# Altium footprint library CONN_HDR_2.54MM_ST.PcbLib: 159 footprints (part 4 of 13)
Each footprint in its own frame and in the unit in brackets; x right, y up, seen from the top. Pads: shape width x height; smd on the part's side, far side on the other; paste and mask are expansions set on the pad; w line width, h text height; cw(c..) or ccw(c..) is an arc to the next point about the centre after c.
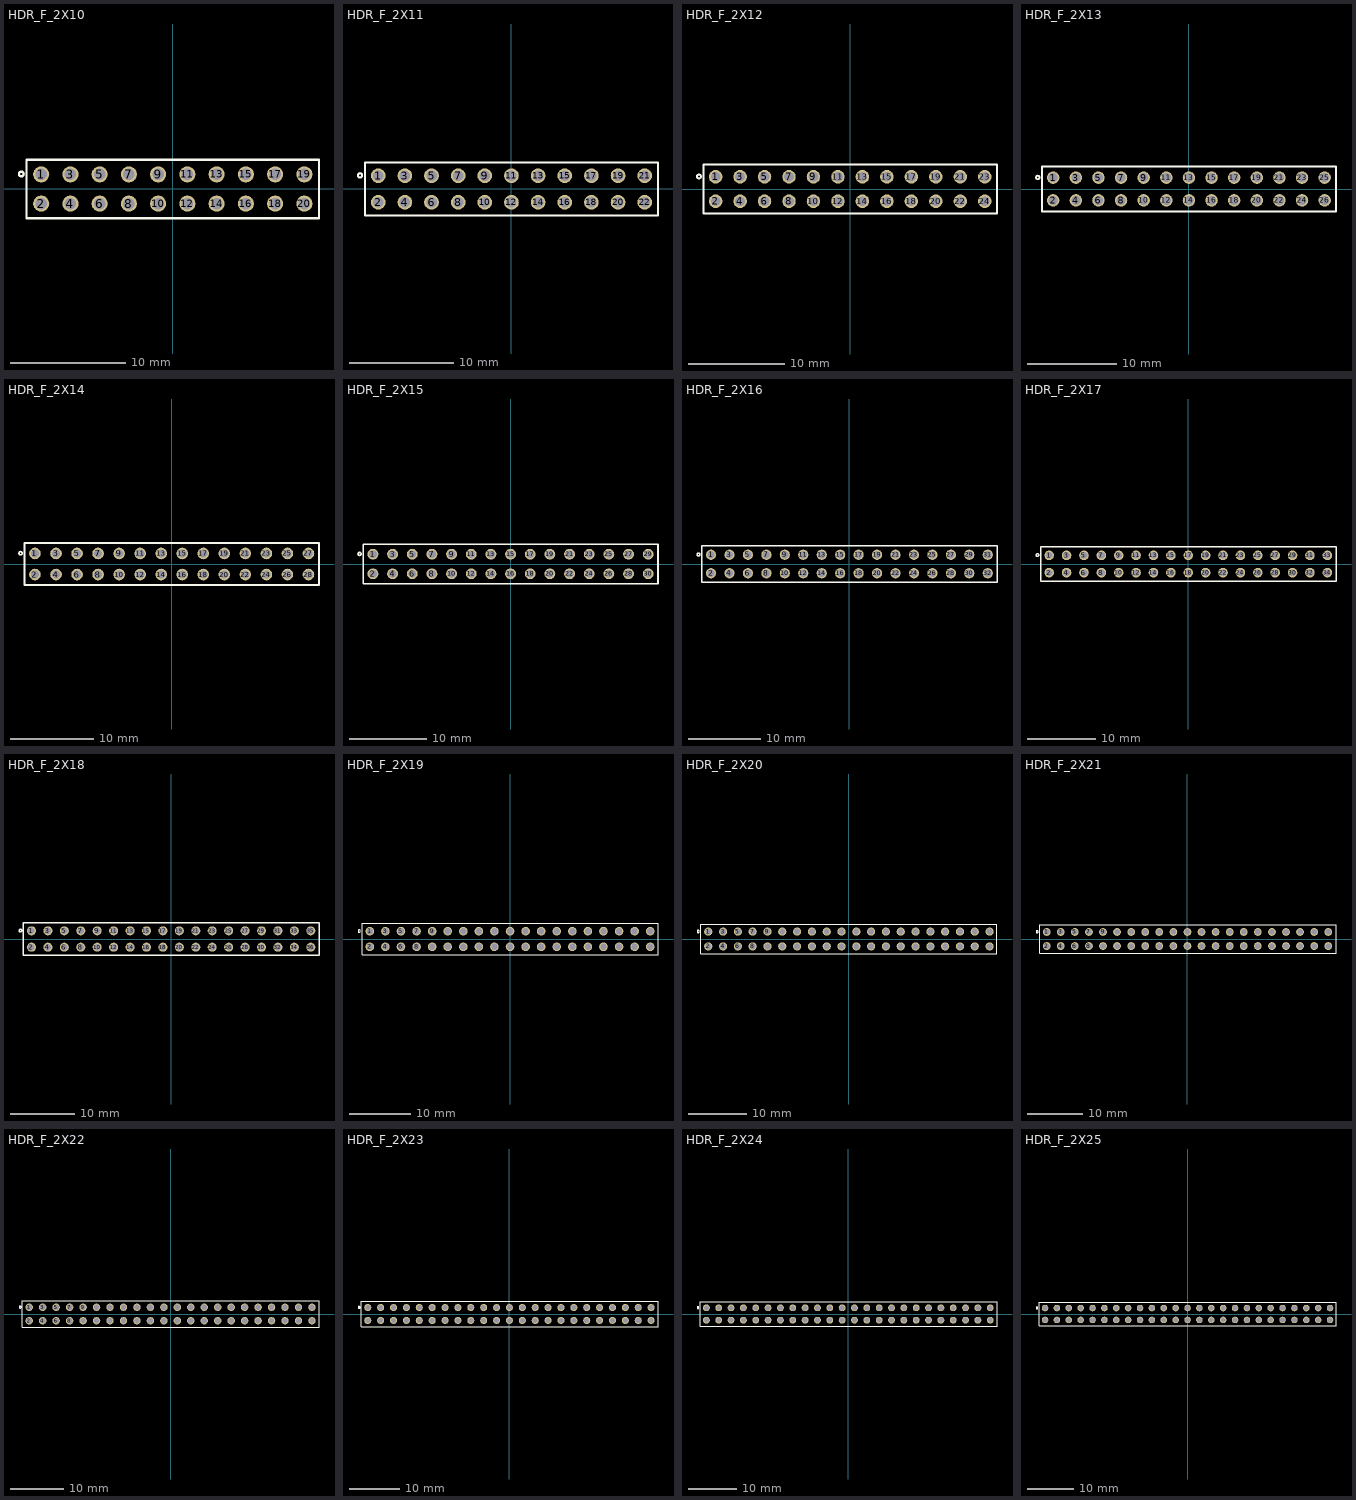
[diagram p3: the footprints below, top view; thin cyan lines are the x and y axes]

## HDR_F_2X10 [mm] "Connector; Header; 10x2 Position"
height 8
pads (20):
  round 1.4 / inner round 1.4 / far side oval 1.4x2.2 hole 1: 1(-11.43,1.27) 2(-11.43,-1.27) 3(-8.89,1.27) 4(-8.89,-1.27) 5(-6.35,1.27) 6(-6.35,-1.27) 7(-3.81,1.27) 8(-3.81,-1.27) 9(-1.27,1.27) 10(-1.27,-1.27) 11(1.27,1.27) 12(1.27,-1.27) 13(3.81,1.27) 14(3.81,-1.27) 15(6.35,1.27) 16(6.35,-1.27) 17(8.89,1.27) 18(8.89,-1.27) 19(11.43,1.27) 20(11.43,-1.27)
TopOverlay:
  circle w0.2: c-13.16,1.3 r0.2
  lines w0.2: -12.7,-2.54 12.7,-2.54 12.7,2.54 -12.7,2.54 -12.7,-2.54
3D body "PBD-2.stp": height 8.5, standoff -3.15, extent -10.16,-2.54 -7.62,2.54
3D body "PBD-2.stp": height 8.5, standoff -3.15, extent -12.7,-2.54 -10.16,2.54
3D body "PBD-2.stp": height 8.5, standoff -3.15, extent -5.08,-2.54 -2.54,2.54
3D body "PBD-2.stp": height 8.5, standoff -3.15, extent -7.62,-2.54 -5.08,2.54
3D body "PBD-2.stp": height 8.5, standoff -3.15, extent 0,-2.54 2.54,2.54
3D body "PBD-2.stp": height 8.5, standoff -3.15, extent -2.54,-2.54 0,2.54
3D body "PBD-2.stp": height 8.5, standoff -3.15, extent 5.08,-2.54 7.62,2.54
3D body "PBD-2.stp": height 8.5, standoff -3.15, extent 2.54,-2.54 5.08,2.54
3D body "PBD-2.stp": height 8.5, standoff -3.15, extent 10.16,-2.54 12.7,2.54
3D body "PBD-2.stp": height 8.5, standoff -3.15, extent 7.62,-2.54 10.16,2.54

## HDR_F_2X11 [mm] "Connector; Header; 11x2 Position"
height 8
pads (22):
  round 1.4 / inner round 1.4 / far side oval 1.4x2.2 hole 1: 1(-12.7,1.27) 2(-12.7,-1.27) 3(-10.16,1.27) 4(-10.16,-1.27) 5(-7.62,1.27) 6(-7.62,-1.27) 7(-5.08,1.27) 8(-5.08,-1.27) 9(-2.54,1.27) 10(-2.54,-1.27) 11(0,1.27) 12(0,-1.27) 13(2.54,1.27) 14(2.54,-1.27) 15(5.08,1.27) 16(5.08,-1.27) 17(7.62,1.27) 18(7.62,-1.27) 19(10.16,1.27) 20(10.16,-1.27) 21(12.7,1.27) 22(12.7,-1.27)
TopOverlay:
  circle w0.2: c-14.43,1.3 r0.2
  lines w0.2: -13.97,-2.54 -13.97,2.54 13.97,2.54 13.97,-2.54 -13.97,-2.54
3D body "PBD-2.stp": height 8.5, standoff -3.15, extent 3.81,-2.54 6.35,2.54
3D body "PBD-2.stp": height 8.5, standoff -3.15, extent 1.27,-2.54 3.81,2.54
3D body "PBD-2.stp": height 8.5, standoff -3.15, extent 6.35,-2.54 8.89,2.54
3D body "PBD-2.stp": height 8.5, standoff -3.15, extent -3.81,-2.54 -1.27,2.54
3D body "PBD-2.stp": height 8.5, standoff -3.15, extent -6.35,-2.54 -3.81,2.54
3D body "PBD-2.stp": height 8.5, standoff -3.15, extent -1.27,-2.54 1.27,2.54
3D body "PBD-2.stp": height 8.5, standoff -3.15, extent -11.43,-2.54 -8.89,2.54
3D body "PBD-2.stp": height 8.5, standoff -3.15, extent -13.97,-2.54 -11.43,2.54
3D body "PBD-2.stp": height 8.5, standoff -3.15, extent -8.89,-2.54 -6.35,2.54
3D body "PBD-2.stp": height 8.5, standoff -3.15, extent 8.89,-2.54 11.43,2.54
3D body "PBD-2.stp": height 8.5, standoff -3.15, extent 11.43,-2.54 13.97,2.54

## HDR_F_2X12 [mm] "Connector; Header; 12x2 Position"
height 8
pads (24):
  round 1.4 / inner round 1.4 / far side oval 1.4x2.2 hole 1: 1(-13.97,1.27) 2(-13.97,-1.27) 3(-11.43,1.27) 4(-11.43,-1.27) 5(-8.89,1.27) 6(-8.89,-1.27) 7(-6.35,1.27) 8(-6.35,-1.27) 9(-3.81,1.27) 10(-3.81,-1.27) 11(-1.27,1.27) 12(-1.27,-1.27) 13(1.27,1.27) 14(1.27,-1.27) 15(3.81,1.27) 16(3.81,-1.27) 17(6.35,1.27) 18(6.35,-1.27) 19(8.89,1.27) 20(8.89,-1.27) 21(11.43,1.27) 22(11.43,-1.27) 23(13.97,1.27) 24(13.97,-1.27)
TopOverlay:
  circle w0.2: c-15.7,1.3 r0.2
  lines w0.2: -15.24,-2.54 -15.24,2.54 15.24,2.54 15.24,-2.54 -15.24,-2.54
3D body "PBD-2.stp": height 8.5, standoff -3.15, extent -10.16,-2.54 -7.62,2.54
3D body "PBD-2.stp": height 8.5, standoff -3.15, extent -15.24,-2.54 -12.7,2.54
3D body "PBD-2.stp": height 8.5, standoff -3.15, extent -12.7,-2.54 -10.16,2.54
3D body "PBD-2.stp": height 8.5, standoff -3.15, extent -2.54,-2.54 0,2.54
3D body "PBD-2.stp": height 8.5, standoff -3.15, extent -7.62,-2.54 -5.08,2.54
3D body "PBD-2.stp": height 8.5, standoff -3.15, extent -5.08,-2.54 -2.54,2.54
3D body "PBD-2.stp": height 8.5, standoff -3.15, extent 5.08,-2.54 7.62,2.54
3D body "PBD-2.stp": height 8.5, standoff -3.15, extent 0,-2.54 2.54,2.54
3D body "PBD-2.stp": height 8.5, standoff -3.15, extent 2.54,-2.54 5.08,2.54
3D body "PBD-2.stp": height 8.5, standoff -3.15, extent 12.7,-2.54 15.24,2.54
3D body "PBD-2.stp": height 8.5, standoff -3.15, extent 7.62,-2.54 10.16,2.54
3D body "PBD-2.stp": height 8.5, standoff -3.15, extent 10.16,-2.54 12.7,2.54

## HDR_F_2X13 [mm] "Connector; Header; 13x2 Position"
height 8
pads (26):
  round 1.4 / inner round 1.4 / far side oval 1.4x2.2 hole 1: 1(-15.24,1.27) 2(-15.24,-1.27) 3(-12.7,1.27) 4(-12.7,-1.27) 5(-10.16,1.27) 6(-10.16,-1.27) 7(-7.62,1.27) 8(-7.62,-1.27) 9(-5.08,1.27) 10(-5.08,-1.27) 11(-2.54,1.27) 12(-2.54,-1.27) 13(0,1.27) 14(0,-1.27) 15(2.54,1.27) 16(2.54,-1.27) 17(5.08,1.27) 18(5.08,-1.27) 19(7.62,1.27) 20(7.62,-1.27) 21(10.16,1.27) 22(10.16,-1.27) 23(12.7,1.27) 24(12.7,-1.27) 25(15.24,1.27) 26(15.24,-1.27)
TopOverlay:
  circle w0.2: c-16.97,1.3 r0.2
  lines w0.2: -16.51,-2.54 16.51,-2.54 16.51,2.54 -16.51,2.54 -16.51,-2.54
3D body "PBD-2.stp": height 8.5, standoff -3.15, extent 13.97,-2.54 16.51,2.54
3D body "PBD-2.stp": height 8.5, standoff -3.15, extent -11.43,-2.54 -8.89,2.54
3D body "PBD-2.stp": height 8.5, standoff -3.15, extent -16.51,-2.54 -13.97,2.54
3D body "PBD-2.stp": height 8.5, standoff -3.15, extent -13.97,-2.54 -11.43,2.54
3D body "PBD-2.stp": height 8.5, standoff -3.15, extent -3.81,-2.54 -1.27,2.54
3D body "PBD-2.stp": height 8.5, standoff -3.15, extent -8.89,-2.54 -6.35,2.54
3D body "PBD-2.stp": height 8.5, standoff -3.15, extent -6.35,-2.54 -3.81,2.54
3D body "PBD-2.stp": height 8.5, standoff -3.15, extent 3.81,-2.54 6.35,2.54
3D body "PBD-2.stp": height 8.5, standoff -3.15, extent -1.27,-2.54 1.27,2.54
3D body "PBD-2.stp": height 8.5, standoff -3.15, extent 1.27,-2.54 3.81,2.54
3D body "PBD-2.stp": height 8.5, standoff -3.15, extent 11.43,-2.54 13.97,2.54
3D body "PBD-2.stp": height 8.5, standoff -3.15, extent 6.35,-2.54 8.89,2.54
3D body "PBD-2.stp": height 8.5, standoff -3.15, extent 8.89,-2.54 11.43,2.54

## HDR_F_2X14 [mm] "Connector; Header; 14x2 Position"
height 8
pads (28):
  round 1.4 / inner round 1.4 / far side oval 1.4x2.2 hole 1: 1(-16.51,1.27) 2(-16.51,-1.27) 3(-13.97,1.27) 4(-13.97,-1.27) 5(-11.43,1.27) 6(-11.43,-1.27) 7(-8.89,1.27) 8(-8.89,-1.27) 9(-6.35,1.27) 10(-6.35,-1.27) 11(-3.81,1.27) 12(-3.81,-1.27) 13(-1.27,1.27) 14(-1.27,-1.27) 15(1.27,1.27) 16(1.27,-1.27) 17(3.81,1.27) 18(3.81,-1.27) 19(6.35,1.27) 20(6.35,-1.27) 21(8.89,1.27) 22(8.89,-1.27) 23(11.43,1.27) 24(11.43,-1.27) 25(13.97,1.27) 26(13.97,-1.27) 27(16.51,1.27) 28(16.51,-1.27)
TopOverlay:
  circle w0.2: c-18.24,1.3 r0.2
  lines w0.2: -17.78,-2.54 -17.78,2.54 17.78,2.54 17.78,-2.54 -17.78,-2.54
3D body "PBD-2.stp": height 8.5, standoff -3.15, extent 7.62,-2.54 10.16,2.54
3D body "PBD-2.stp": height 8.5, standoff -3.15, extent 5.08,-2.54 7.62,2.54
3D body "PBD-2.stp": height 8.5, standoff -3.15, extent 10.16,-2.54 12.7,2.54
3D body "PBD-2.stp": height 8.5, standoff -3.15, extent 0,-2.54 2.54,2.54
3D body "PBD-2.stp": height 8.5, standoff -3.15, extent -2.54,-2.54 0,2.54
3D body "PBD-2.stp": height 8.5, standoff -3.15, extent 2.54,-2.54 5.08,2.54
3D body "PBD-2.stp": height 8.5, standoff -3.15, extent -7.62,-2.54 -5.08,2.54
3D body "PBD-2.stp": height 8.5, standoff -3.15, extent -10.16,-2.54 -7.62,2.54
3D body "PBD-2.stp": height 8.5, standoff -3.15, extent -5.08,-2.54 -2.54,2.54
3D body "PBD-2.stp": height 8.5, standoff -3.15, extent -15.24,-2.54 -12.7,2.54
3D body "PBD-2.stp": height 8.5, standoff -3.15, extent -17.78,-2.54 -15.24,2.54
3D body "PBD-2.stp": height 8.5, standoff -3.15, extent -12.7,-2.54 -10.16,2.54
3D body "PBD-2.stp": height 8.5, standoff -3.15, extent 12.7,-2.54 15.24,2.54
3D body "PBD-2.stp": height 8.5, standoff -3.15, extent 15.24,-2.54 17.78,2.54

## HDR_F_2X15 [mm] "Connector; Header; 15x2 Position"
height 8
pads (30):
  round 1.4 / inner round 1.4 / far side oval 1.4x2.2 hole 1: 1(-17.78,1.27) 2(-17.78,-1.27) 3(-15.24,1.27) 4(-15.24,-1.27) 5(-12.7,1.27) 6(-12.7,-1.27) 7(-10.16,1.27) 8(-10.16,-1.27) 9(-7.62,1.27) 10(-7.62,-1.27) 11(-5.08,1.27) 12(-5.08,-1.27) 13(-2.54,1.27) 14(-2.54,-1.27) 15(0,1.27) 16(0,-1.27) 17(2.54,1.27) 18(2.54,-1.27) 19(5.08,1.27) 20(5.08,-1.27) 21(7.62,1.27) 22(7.62,-1.27) 23(10.16,1.27) 24(10.16,-1.27) 25(12.7,1.27) 26(12.7,-1.27) 27(15.24,1.27) 28(15.24,-1.27) 29(17.78,1.27) 30(17.78,-1.27)
TopOverlay:
  circle w0.2: c-19.51,1.3 r0.2
  lines w0.2: -19.05,-2.54 19.05,-2.54 19.05,2.54 -19.05,2.54 -19.05,-2.54
3D body "PBD-2.stp": height 8.5, standoff -3.15, extent 13.97,-2.54 16.51,2.54
3D body "PBD-2.stp": height 8.5, standoff -3.15, extent 11.43,-2.54 13.97,2.54
3D body "PBD-2.stp": height 8.5, standoff -3.15, extent 16.51,-2.54 19.05,2.54
3D body "PBD-2.stp": height 8.5, standoff -3.15, extent 6.35,-2.54 8.89,2.54
3D body "PBD-2.stp": height 8.5, standoff -3.15, extent 3.81,-2.54 6.35,2.54
3D body "PBD-2.stp": height 8.5, standoff -3.15, extent 8.89,-2.54 11.43,2.54
3D body "PBD-2.stp": height 8.5, standoff -3.15, extent -1.27,-2.54 1.27,2.54
3D body "PBD-2.stp": height 8.5, standoff -3.15, extent -3.81,-2.54 -1.27,2.54
3D body "PBD-2.stp": height 8.5, standoff -3.15, extent 1.27,-2.54 3.81,2.54
3D body "PBD-2.stp": height 8.5, standoff -3.15, extent -8.89,-2.54 -6.35,2.54
3D body "PBD-2.stp": height 8.5, standoff -3.15, extent -11.43,-2.54 -8.89,2.54
3D body "PBD-2.stp": height 8.5, standoff -3.15, extent -6.35,-2.54 -3.81,2.54
3D body "PBD-2.stp": height 8.5, standoff -3.15, extent -16.51,-2.54 -13.97,2.54
3D body "PBD-2.stp": height 8.5, standoff -3.15, extent -19.05,-2.54 -16.51,2.54
3D body "PBD-2.stp": height 8.5, standoff -3.15, extent -13.97,-2.54 -11.43,2.54

## HDR_F_2X16 [mm] "Connector; Header; 16x2 Position"
height 8
pads (32):
  round 1.4 / inner round 1.4 / far side oval 1.4x2.2 hole 1: 1(-19.05,1.27) 2(-19.05,-1.27) 3(-16.51,1.27) 4(-16.51,-1.27) 5(-13.97,1.27) 6(-13.97,-1.27) 7(-11.43,1.27) 8(-11.43,-1.27) 9(-8.89,1.27) 10(-8.89,-1.27) 11(-6.35,1.27) 12(-6.35,-1.27) 13(-3.81,1.27) 14(-3.81,-1.27) 15(-1.27,1.27) 16(-1.27,-1.27) 17(1.27,1.27) 18(1.27,-1.27) 19(3.81,1.27) 20(3.81,-1.27) 21(6.35,1.27) 22(6.35,-1.27) 23(8.89,1.27) 24(8.89,-1.27) 25(11.43,1.27) 26(11.43,-1.27) 27(13.97,1.27) 28(13.97,-1.27) 29(16.51,1.27) 30(16.51,-1.27) 31(19.05,1.27) 32(19.05,-1.27)
TopOverlay:
  circle w0.2: c-20.78,1.3 r0.2
  lines w0.2: -20.32,-2.54 20.32,-2.54 20.32,2.54 -20.32,2.54 -20.32,-2.54
3D body "PBD-2.stp": height 8.5, standoff -3.15, extent 12.7,-2.54 15.24,2.54
3D body "PBD-2.stp": height 8.5, standoff -3.15, extent 10.16,-2.54 12.7,2.54
3D body "PBD-2.stp": height 8.5, standoff -3.15, extent 15.24,-2.54 17.78,2.54
3D body "PBD-2.stp": height 8.5, standoff -3.15, extent 5.08,-2.54 7.62,2.54
3D body "PBD-2.stp": height 8.5, standoff -3.15, extent 2.54,-2.54 5.08,2.54
3D body "PBD-2.stp": height 8.5, standoff -3.15, extent 7.62,-2.54 10.16,2.54
3D body "PBD-2.stp": height 8.5, standoff -3.15, extent -2.54,-2.54 0,2.54
3D body "PBD-2.stp": height 8.5, standoff -3.15, extent -5.08,-2.54 -2.54,2.54
3D body "PBD-2.stp": height 8.5, standoff -3.15, extent 0,-2.54 2.54,2.54
3D body "PBD-2.stp": height 8.5, standoff -3.15, extent -10.16,-2.54 -7.62,2.54
3D body "PBD-2.stp": height 8.5, standoff -3.15, extent -12.7,-2.54 -10.16,2.54
3D body "PBD-2.stp": height 8.5, standoff -3.15, extent -7.62,-2.54 -5.08,2.54
3D body "PBD-2.stp": height 8.5, standoff -3.15, extent -17.78,-2.54 -15.24,2.54
3D body "PBD-2.stp": height 8.5, standoff -3.15, extent -20.32,-2.54 -17.78,2.54
3D body "PBD-2.stp": height 8.5, standoff -3.15, extent -15.24,-2.54 -12.7,2.54
3D body "PBD-2.stp": height 8.5, standoff -3.15, extent 17.78,-2.54 20.32,2.54

## HDR_F_2X17 [mm] "Connector; Header; 17x2 Position"
height 8
pads (34):
  round 1.4 / inner round 1.4 / far side oval 1.4x2.2 hole 1: 1(-20.32,1.27) 2(-20.32,-1.27) 3(-17.78,1.27) 4(-17.78,-1.27) 5(-15.24,1.27) 6(-15.24,-1.27) 7(-12.7,1.27) 8(-12.7,-1.27) 9(-10.16,1.27) 10(-10.16,-1.27) 11(-7.62,1.27) 12(-7.62,-1.27) 13(-5.08,1.27) 14(-5.08,-1.27) 15(-2.54,1.27) 16(-2.54,-1.27) 17(0,1.27) 18(0,-1.27) 19(2.54,1.27) 20(2.54,-1.27) 21(5.08,1.27) 22(5.08,-1.27) 23(7.62,1.27) 24(7.62,-1.27) 25(10.16,1.27) 26(10.16,-1.27) 27(12.7,1.27) 28(12.7,-1.27) 29(15.24,1.27) 30(15.24,-1.27) 31(17.78,1.27) 32(17.78,-1.27) 33(20.32,1.27) 34(20.32,-1.27)
TopOverlay:
  circle w0.2: c-22.05,1.3 r0.2
  lines w0.2: -21.59,-2.54 -21.59,2.54 21.59,2.54 21.59,-2.54 -21.59,-2.54
3D body "PBD-2.stp": height 8.5, standoff -3.15, extent 11.43,-2.54 13.97,2.54
3D body "PBD-2.stp": height 8.5, standoff -3.15, extent 8.89,-2.54 11.43,2.54
3D body "PBD-2.stp": height 8.5, standoff -3.15, extent 13.97,-2.54 16.51,2.54
3D body "PBD-2.stp": height 8.5, standoff -3.15, extent 3.81,-2.54 6.35,2.54
3D body "PBD-2.stp": height 8.5, standoff -3.15, extent 1.27,-2.54 3.81,2.54
3D body "PBD-2.stp": height 8.5, standoff -3.15, extent 6.35,-2.54 8.89,2.54
3D body "PBD-2.stp": height 8.5, standoff -3.15, extent -3.81,-2.54 -1.27,2.54
3D body "PBD-2.stp": height 8.5, standoff -3.15, extent -6.35,-2.54 -3.81,2.54
3D body "PBD-2.stp": height 8.5, standoff -3.15, extent -1.27,-2.54 1.27,2.54
3D body "PBD-2.stp": height 8.5, standoff -3.15, extent -11.43,-2.54 -8.89,2.54
3D body "PBD-2.stp": height 8.5, standoff -3.15, extent -13.97,-2.54 -11.43,2.54
3D body "PBD-2.stp": height 8.5, standoff -3.15, extent -8.89,-2.54 -6.35,2.54
3D body "PBD-2.stp": height 8.5, standoff -3.15, extent -19.05,-2.54 -16.51,2.54
3D body "PBD-2.stp": height 8.5, standoff -3.15, extent -21.59,-2.54 -19.05,2.54
3D body "PBD-2.stp": height 8.5, standoff -3.15, extent -16.51,-2.54 -13.97,2.54
3D body "PBD-2.stp": height 8.5, standoff -3.15, extent 16.51,-2.54 19.05,2.54
3D body "PBD-2.stp": height 8.5, standoff -3.15, extent 19.05,-2.54 21.59,2.54

## HDR_F_2X18 [mm] "Connector; Header; 18x2 Position"
height 8
pads (36):
  round 1.4 / inner round 1.4 / far side oval 1.4x2.2 hole 1: 1(-21.59,1.27) 2(-21.59,-1.27) 3(-19.05,1.27) 4(-19.05,-1.27) 5(-16.51,1.27) 6(-16.51,-1.27) 7(-13.97,1.27) 8(-13.97,-1.27) 9(-11.43,1.27) 10(-11.43,-1.27) 11(-8.89,1.27) 12(-8.89,-1.27) 13(-6.35,1.27) 14(-6.35,-1.27) 15(-3.81,1.27) 16(-3.81,-1.27) 17(-1.27,1.27) 18(-1.27,-1.27) 19(1.27,1.27) 20(1.27,-1.27) 21(3.81,1.27) 22(3.81,-1.27) 23(6.35,1.27) 24(6.35,-1.27) 25(8.89,1.27) 26(8.89,-1.27) 27(11.43,1.27) 28(11.43,-1.27) 29(13.97,1.27) 30(13.97,-1.27) 31(16.51,1.27) 32(16.51,-1.27) 33(19.05,1.27) 34(19.05,-1.27) 35(21.59,1.27) 36(21.59,-1.27)
TopOverlay:
  circle w0.2: c-23.32,1.3 r0.2
  lines w0.2: -22.86,-2.54 22.86,-2.54 22.86,2.54 -22.86,2.54 -22.86,-2.54
3D body "PBD-2.stp": height 8.5, standoff -3.15, extent -17.78,-2.54 -15.24,2.54
3D body "PBD-2.stp": height 8.5, standoff -3.15, extent -22.86,-2.54 -20.32,2.54
3D body "PBD-2.stp": height 8.5, standoff -3.15, extent -20.32,-2.54 -17.78,2.54
3D body "PBD-2.stp": height 8.5, standoff -3.15, extent -10.16,-2.54 -7.62,2.54
3D body "PBD-2.stp": height 8.5, standoff -3.15, extent -15.24,-2.54 -12.7,2.54
3D body "PBD-2.stp": height 8.5, standoff -3.15, extent -12.7,-2.54 -10.16,2.54
3D body "PBD-2.stp": height 8.5, standoff -3.15, extent -2.54,-2.54 0,2.54
3D body "PBD-2.stp": height 8.5, standoff -3.15, extent -7.62,-2.54 -5.08,2.54
3D body "PBD-2.stp": height 8.5, standoff -3.15, extent -5.08,-2.54 -2.54,2.54
3D body "PBD-2.stp": height 8.5, standoff -3.15, extent 5.08,-2.54 7.62,2.54
3D body "PBD-2.stp": height 8.5, standoff -3.15, extent 0,-2.54 2.54,2.54
3D body "PBD-2.stp": height 8.5, standoff -3.15, extent 2.54,-2.54 5.08,2.54
3D body "PBD-2.stp": height 8.5, standoff -3.15, extent 12.7,-2.54 15.24,2.54
3D body "PBD-2.stp": height 8.5, standoff -3.15, extent 7.62,-2.54 10.16,2.54
3D body "PBD-2.stp": height 8.5, standoff -3.15, extent 10.16,-2.54 12.7,2.54
3D body "PBD-2.stp": height 8.5, standoff -3.15, extent 20.32,-2.54 22.86,2.54
3D body "PBD-2.stp": height 8.5, standoff -3.15, extent 15.24,-2.54 17.78,2.54
3D body "PBD-2.stp": height 8.5, standoff -3.15, extent 17.78,-2.54 20.32,2.54

## HDR_F_2X19 [mm] "Connector; Header; 19x2 Position"
height 8
pads (38):
  round 1.4 / inner round 1.4 / far side oval 1.4x2.2 hole 1: 1(-22.86,1.27) 2(-22.86,-1.27) 3(-20.32,1.27) 4(-20.32,-1.27) 5(-17.78,1.27) 6(-17.78,-1.27) 7(-15.24,1.27) 8(-15.24,-1.27) 9(-12.7,1.27) 10(-12.7,-1.27) 11(-10.16,1.27) 12(-10.16,-1.27) 13(-7.62,1.27) 14(-7.62,-1.27) 15(-5.08,1.27) 16(-5.08,-1.27) 17(-2.54,1.27) 18(-2.54,-1.27) 19(0,1.27) 20(0,-1.27) 21(2.54,1.27) 22(2.54,-1.27) 23(5.08,1.27) 24(5.08,-1.27) 25(7.62,1.27) 26(7.62,-1.27) 27(10.16,1.27) 28(10.16,-1.27) 29(12.7,1.27) 30(12.7,-1.27) 31(15.24,1.27) 32(15.24,-1.27) 33(17.78,1.27) 34(17.78,-1.27) 35(20.32,1.27) 36(20.32,-1.27) 37(22.86,1.27) 38(22.86,-1.27)
TopOverlay:
  circle w0.2: c-24.59,1.3 r0.2
  lines w0.2: -24.13,-2.54 -24.13,2.54 24.13,2.54 24.13,-2.54 -24.13,-2.54
3D body "PBD-2.stp": height 8.5, standoff -3.15, extent 21.59,-2.54 24.13,2.54
3D body "PBD-2.stp": height 8.5, standoff -3.15, extent -19.05,-2.54 -16.51,2.54
3D body "PBD-2.stp": height 8.5, standoff -3.15, extent -24.13,-2.54 -21.59,2.54
3D body "PBD-2.stp": height 8.5, standoff -3.15, extent -21.59,-2.54 -19.05,2.54
3D body "PBD-2.stp": height 8.5, standoff -3.15, extent -11.43,-2.54 -8.89,2.54
3D body "PBD-2.stp": height 8.5, standoff -3.15, extent -16.51,-2.54 -13.97,2.54
3D body "PBD-2.stp": height 8.5, standoff -3.15, extent -13.97,-2.54 -11.43,2.54
3D body "PBD-2.stp": height 8.5, standoff -3.15, extent -3.81,-2.54 -1.27,2.54
3D body "PBD-2.stp": height 8.5, standoff -3.15, extent -8.89,-2.54 -6.35,2.54
3D body "PBD-2.stp": height 8.5, standoff -3.15, extent -6.35,-2.54 -3.81,2.54
3D body "PBD-2.stp": height 8.5, standoff -3.15, extent 3.81,-2.54 6.35,2.54
3D body "PBD-2.stp": height 8.5, standoff -3.15, extent -1.27,-2.54 1.27,2.54
3D body "PBD-2.stp": height 8.5, standoff -3.15, extent 1.27,-2.54 3.81,2.54
3D body "PBD-2.stp": height 8.5, standoff -3.15, extent 11.43,-2.54 13.97,2.54
3D body "PBD-2.stp": height 8.5, standoff -3.15, extent 6.35,-2.54 8.89,2.54
3D body "PBD-2.stp": height 8.5, standoff -3.15, extent 8.89,-2.54 11.43,2.54
3D body "PBD-2.stp": height 8.5, standoff -3.15, extent 19.05,-2.54 21.59,2.54
3D body "PBD-2.stp": height 8.5, standoff -3.15, extent 13.97,-2.54 16.51,2.54
3D body "PBD-2.stp": height 8.5, standoff -3.15, extent 16.51,-2.54 19.05,2.54

## HDR_F_2X20 [mm] "Connector; Header; 20x2 Position"
height 8
pads (40):
  round 1.4 / inner round 1.4 / far side oval 1.4x2.2 hole 1: 1(-24.13,1.27) 2(-24.13,-1.27) 3(-21.59,1.27) 4(-21.59,-1.27) 5(-19.05,1.27) 6(-19.05,-1.27) 7(-16.51,1.27) 8(-16.51,-1.27) 9(-13.97,1.27) 10(-13.97,-1.27) 11(-11.43,1.27) 12(-11.43,-1.27) 13(-8.89,1.27) 14(-8.89,-1.27) 15(-6.35,1.27) 16(-6.35,-1.27) 17(-3.81,1.27) 18(-3.81,-1.27) 19(-1.27,1.27) 20(-1.27,-1.27) 21(1.27,1.27) 22(1.27,-1.27) 23(3.81,1.27) 24(3.81,-1.27) 25(6.35,1.27) 26(6.35,-1.27) 27(8.89,1.27) 28(8.89,-1.27) 29(11.43,1.27) 30(11.43,-1.27) 31(13.97,1.27) 32(13.97,-1.27) 33(16.51,1.27) 34(16.51,-1.27) 35(19.05,1.27) 36(19.05,-1.27) 37(21.59,1.27) 38(21.59,-1.27) 39(24.13,1.27) 40(24.13,-1.27)
TopOverlay:
  circle w0.2: c-25.86,1.3 r0.2
  lines w0.2: -25.4,-2.54 25.4,-2.54 25.4,2.54 -25.4,2.54 -25.4,-2.54
3D body "PBD-2.stp": height 8.5, standoff -3.15, extent -20.32,-2.54 -17.78,2.54
3D body "PBD-2.stp": height 8.5, standoff -3.15, extent -25.4,-2.54 -22.86,2.54
3D body "PBD-2.stp": height 8.5, standoff -3.15, extent -22.86,-2.54 -20.32,2.54
3D body "PBD-2.stp": height 8.5, standoff -3.15, extent -12.7,-2.54 -10.16,2.54
3D body "PBD-2.stp": height 8.5, standoff -3.15, extent -17.78,-2.54 -15.24,2.54
3D body "PBD-2.stp": height 8.5, standoff -3.15, extent -15.24,-2.54 -12.7,2.54
3D body "PBD-2.stp": height 8.5, standoff -3.15, extent -5.08,-2.54 -2.54,2.54
3D body "PBD-2.stp": height 8.5, standoff -3.15, extent -10.16,-2.54 -7.62,2.54
3D body "PBD-2.stp": height 8.5, standoff -3.15, extent -7.62,-2.54 -5.08,2.54
3D body "PBD-2.stp": height 8.5, standoff -3.15, extent 2.54,-2.54 5.08,2.54
3D body "PBD-2.stp": height 8.5, standoff -3.15, extent -2.54,-2.54 0,2.54
3D body "PBD-2.stp": height 8.5, standoff -3.15, extent 0,-2.54 2.54,2.54
3D body "PBD-2.stp": height 8.5, standoff -3.15, extent 10.16,-2.54 12.7,2.54
3D body "PBD-2.stp": height 8.5, standoff -3.15, extent 5.08,-2.54 7.62,2.54
3D body "PBD-2.stp": height 8.5, standoff -3.15, extent 7.62,-2.54 10.16,2.54
3D body "PBD-2.stp": height 8.5, standoff -3.15, extent 17.78,-2.54 20.32,2.54
3D body "PBD-2.stp": height 8.5, standoff -3.15, extent 12.7,-2.54 15.24,2.54
3D body "PBD-2.stp": height 8.5, standoff -3.15, extent 15.24,-2.54 17.78,2.54
3D body "PBD-2.stp": height 8.5, standoff -3.15, extent 20.32,-2.54 22.86,2.54
3D body "PBD-2.stp": height 8.5, standoff -3.15, extent 22.86,-2.54 25.4,2.54

## HDR_F_2X21 [mm] "Connector; Header;"
height 8
pads (42):
  round 1.4 / inner round 1.4 / far side oval 1.4x2.2 hole 1: 1(-25.4,1.27) 2(-25.4,-1.27) 3(-22.86,1.27) 4(-22.86,-1.27) 5(-20.32,1.27) 6(-20.32,-1.27) 7(-17.78,1.27) 8(-17.78,-1.27) 9(-15.24,1.27) 10(-15.24,-1.27) 11(-12.7,1.27) 12(-12.7,-1.27) 13(-10.16,1.27) 14(-10.16,-1.27) 15(-7.62,1.27) 16(-7.62,-1.27) 17(-5.08,1.27) 18(-5.08,-1.27) 19(-2.54,1.27) 20(-2.54,-1.27) 21(0,1.27) 22(0,-1.27) 23(2.54,1.27) 24(2.54,-1.27) 25(5.08,1.27) 26(5.08,-1.27) 27(7.62,1.27) 28(7.62,-1.27) 29(10.16,1.27) 30(10.16,-1.27) 31(12.7,1.27) 32(12.7,-1.27) 33(15.24,1.27) 34(15.24,-1.27) 35(17.78,1.27) 36(17.78,-1.27) 37(20.32,1.27) 38(20.32,-1.27) 39(22.86,1.27) 40(22.86,-1.27) 41(25.4,1.27) 42(25.4,-1.27)
TopOverlay:
  circle w0.2: c-27.13,1.3 r0.2
  lines w0.2: -26.67,-2.54 26.8,-2.54 26.8,2.54 -26.67,2.54 -26.67,-2.54
3D body "PBD-2.stp": height 8.5, standoff -3.15, extent -21.59,-2.54 -19.05,2.54
3D body "PBD-2.stp": height 8.5, standoff -3.15, extent -26.67,-2.54 -24.13,2.54
3D body "PBD-2.stp": height 8.5, standoff -3.15, extent -24.13,-2.54 -21.59,2.54
3D body "PBD-2.stp": height 8.5, standoff -3.15, extent -13.97,-2.54 -11.43,2.54
3D body "PBD-2.stp": height 8.5, standoff -3.15, extent -19.05,-2.54 -16.51,2.54
3D body "PBD-2.stp": height 8.5, standoff -3.15, extent -16.51,-2.54 -13.97,2.54
3D body "PBD-2.stp": height 8.5, standoff -3.15, extent -6.35,-2.54 -3.81,2.54
3D body "PBD-2.stp": height 8.5, standoff -3.15, extent -11.43,-2.54 -8.89,2.54
3D body "PBD-2.stp": height 8.5, standoff -3.15, extent -8.89,-2.54 -6.35,2.54
3D body "PBD-2.stp": height 8.5, standoff -3.15, extent 1.27,-2.54 3.81,2.54
3D body "PBD-2.stp": height 8.5, standoff -3.15, extent -3.81,-2.54 -1.27,2.54
3D body "PBD-2.stp": height 8.5, standoff -3.15, extent -1.27,-2.54 1.27,2.54
3D body "PBD-2.stp": height 8.5, standoff -3.15, extent 8.89,-2.54 11.43,2.54
3D body "PBD-2.stp": height 8.5, standoff -3.15, extent 3.81,-2.54 6.35,2.54
3D body "PBD-2.stp": height 8.5, standoff -3.15, extent 6.35,-2.54 8.89,2.54
3D body "PBD-2.stp": height 8.5, standoff -3.15, extent 16.51,-2.54 19.05,2.54
3D body "PBD-2.stp": height 8.5, standoff -3.15, extent 11.43,-2.54 13.97,2.54
3D body "PBD-2.stp": height 8.5, standoff -3.15, extent 13.97,-2.54 16.51,2.54
3D body "PBD-2.stp": height 8.5, standoff -3.15, extent 19.05,-2.54 21.59,2.54
3D body "PBD-2.stp": height 8.5, standoff -3.15, extent 21.59,-2.54 24.13,2.54
3D body "PBD-2.stp": height 8.5, standoff -3.15, extent 24.13,-2.54 26.67,2.54

## HDR_F_2X22 [mm] "Connector; Header;"
height 8
pads (44):
  round 1.4 / inner round 1.4 / far side oval 1.4x2.2 hole 1: 1(-26.67,1.27) 2(-26.67,-1.27) 3(-24.13,1.27) 4(-24.13,-1.27) 5(-21.59,1.27) 6(-21.59,-1.27) 7(-19.05,1.27) 8(-19.05,-1.27) 9(-16.51,1.27) 10(-16.51,-1.27) 11(-13.97,1.27) 12(-13.97,-1.27) 13(-11.43,1.27) 14(-11.43,-1.27) 15(-8.89,1.27) 16(-8.89,-1.27) 17(-6.35,1.27) 18(-6.35,-1.27) 19(-3.81,1.27) 20(-3.81,-1.27) 21(-1.27,1.27) 22(-1.27,-1.27) 23(1.27,1.27) 24(1.27,-1.27) 25(3.81,1.27) 26(3.81,-1.27) 27(6.35,1.27) 28(6.35,-1.27) 29(8.89,1.27) 30(8.89,-1.27) 31(11.43,1.27) 32(11.43,-1.27) 33(13.97,1.27) 34(13.97,-1.27) 35(16.51,1.27) 36(16.51,-1.27) 37(19.05,1.27) 38(19.05,-1.27) 39(21.59,1.27) 40(21.59,-1.27) 41(24.13,1.27) 42(24.13,-1.27) 43(26.67,1.27) 44(26.67,-1.27)
TopOverlay:
  circle w0.2: c-28.4,1.3 r0.2
  lines w0.2: -27.94,-2.54 28,-2.54 28,2.54 -27.94,2.54 -27.94,-2.54
3D body "PBD-2.stp": height 8.5, standoff -3.15, extent -22.86,-2.54 -20.32,2.54
3D body "PBD-2.stp": height 8.5, standoff -3.15, extent -27.94,-2.54 -25.4,2.54
3D body "PBD-2.stp": height 8.5, standoff -3.15, extent -25.4,-2.54 -22.86,2.54
3D body "PBD-2.stp": height 8.5, standoff -3.15, extent -15.24,-2.54 -12.7,2.54
3D body "PBD-2.stp": height 8.5, standoff -3.15, extent -20.32,-2.54 -17.78,2.54
3D body "PBD-2.stp": height 8.5, standoff -3.15, extent -17.78,-2.54 -15.24,2.54
3D body "PBD-2.stp": height 8.5, standoff -3.15, extent -7.62,-2.54 -5.08,2.54
3D body "PBD-2.stp": height 8.5, standoff -3.15, extent -12.7,-2.54 -10.16,2.54
3D body "PBD-2.stp": height 8.5, standoff -3.15, extent -10.16,-2.54 -7.62,2.54
3D body "PBD-2.stp": height 8.5, standoff -3.15, extent 0,-2.54 2.54,2.54
3D body "PBD-2.stp": height 8.5, standoff -3.15, extent -5.08,-2.54 -2.54,2.54
3D body "PBD-2.stp": height 8.5, standoff -3.15, extent -2.54,-2.54 0,2.54
3D body "PBD-2.stp": height 8.5, standoff -3.15, extent 7.62,-2.54 10.16,2.54
3D body "PBD-2.stp": height 8.5, standoff -3.15, extent 2.54,-2.54 5.08,2.54
3D body "PBD-2.stp": height 8.5, standoff -3.15, extent 5.08,-2.54 7.62,2.54
3D body "PBD-2.stp": height 8.5, standoff -3.15, extent 15.24,-2.54 17.78,2.54
3D body "PBD-2.stp": height 8.5, standoff -3.15, extent 10.16,-2.54 12.7,2.54
3D body "PBD-2.stp": height 8.5, standoff -3.15, extent 12.7,-2.54 15.24,2.54
3D body "PBD-2.stp": height 8.5, standoff -3.15, extent 17.78,-2.54 20.32,2.54
3D body "PBD-2.stp": height 8.5, standoff -3.15, extent 20.32,-2.54 22.86,2.54
3D body "PBD-2.stp": height 8.5, standoff -3.15, extent 22.86,-2.54 25.4,2.54
3D body "PBD-2.stp": height 8.5, standoff -3.15, extent 25.4,-2.54 27.94,2.54

## HDR_F_2X23 [mm] "Connector; Header;"
height 8
pads (46):
  round 1.4 / inner round 1.4 / far side oval 1.4x2.2 hole 1: 1(-27.94,1.27) 2(-27.94,-1.27) 3(-25.4,1.27) 4(-25.4,-1.27) 5(-22.86,1.27) 6(-22.86,-1.27) 7(-20.32,1.27) 8(-20.32,-1.27) 9(-17.78,1.27) 10(-17.78,-1.27) 11(-15.24,1.27) 12(-15.24,-1.27) 13(-12.7,1.27) 14(-12.7,-1.27) 15(-10.16,1.27) 16(-10.16,-1.27) 17(-7.62,1.27) 18(-7.62,-1.27) 19(-5.08,1.27) 20(-5.08,-1.27) 21(-2.54,1.27) 22(-2.54,-1.27) 23(0,1.27) 24(0,-1.27) 25(2.54,1.27) 26(2.54,-1.27) 27(5.08,1.27) 28(5.08,-1.27) 29(7.62,1.27) 30(7.62,-1.27) 31(10.16,1.27) 32(10.16,-1.27) 33(12.7,1.27) 34(12.7,-1.27) 35(15.24,1.27) 36(15.24,-1.27) 37(17.78,1.27) 38(17.78,-1.27) 39(20.32,1.27) 40(20.32,-1.27) 41(22.86,1.27) 42(22.86,-1.27) 43(25.4,1.27) 44(25.4,-1.27) 45(27.94,1.27) 46(27.94,-1.27)
TopOverlay:
  circle w0.2: c-29.67,1.3 r0.2
  lines w0.2: -29.21,-2.54 29.3,-2.54 29.3,2.54 -29.21,2.54 -29.21,-2.54
3D body "PBD-2.stp": height 8.5, standoff -3.15, extent -24.13,-2.54 -21.59,2.54
3D body "PBD-2.stp": height 8.5, standoff -3.15, extent -29.21,-2.54 -26.67,2.54
3D body "PBD-2.stp": height 8.5, standoff -3.15, extent -26.67,-2.54 -24.13,2.54
3D body "PBD-2.stp": height 8.5, standoff -3.15, extent -16.51,-2.54 -13.97,2.54
3D body "PBD-2.stp": height 8.5, standoff -3.15, extent -21.59,-2.54 -19.05,2.54
3D body "PBD-2.stp": height 8.5, standoff -3.15, extent -19.05,-2.54 -16.51,2.54
3D body "PBD-2.stp": height 8.5, standoff -3.15, extent -8.89,-2.54 -6.35,2.54
3D body "PBD-2.stp": height 8.5, standoff -3.15, extent -13.97,-2.54 -11.43,2.54
3D body "PBD-2.stp": height 8.5, standoff -3.15, extent -11.43,-2.54 -8.89,2.54
3D body "PBD-2.stp": height 8.5, standoff -3.15, extent -1.27,-2.54 1.27,2.54
3D body "PBD-2.stp": height 8.5, standoff -3.15, extent -6.35,-2.54 -3.81,2.54
3D body "PBD-2.stp": height 8.5, standoff -3.15, extent -3.81,-2.54 -1.27,2.54
3D body "PBD-2.stp": height 8.5, standoff -3.15, extent 6.35,-2.54 8.89,2.54
3D body "PBD-2.stp": height 8.5, standoff -3.15, extent 1.27,-2.54 3.81,2.54
3D body "PBD-2.stp": height 8.5, standoff -3.15, extent 3.81,-2.54 6.35,2.54
3D body "PBD-2.stp": height 8.5, standoff -3.15, extent 13.97,-2.54 16.51,2.54
3D body "PBD-2.stp": height 8.5, standoff -3.15, extent 8.89,-2.54 11.43,2.54
3D body "PBD-2.stp": height 8.5, standoff -3.15, extent 11.43,-2.54 13.97,2.54
3D body "PBD-2.stp": height 8.5, standoff -3.15, extent 16.51,-2.54 19.05,2.54
3D body "PBD-2.stp": height 8.5, standoff -3.15, extent 19.05,-2.54 21.59,2.54
3D body "PBD-2.stp": height 8.5, standoff -3.15, extent 21.59,-2.54 24.13,2.54
3D body "PBD-2.stp": height 8.5, standoff -3.15, extent 24.13,-2.54 26.67,2.54
3D body "PBD-2.stp": height 8.5, standoff -3.15, extent 26.67,-2.54 29.21,2.54

## HDR_F_2X24 [mm] "Connector; Header;"
height 8
pads (48):
  round 1.4 / inner round 1.4 / far side oval 1.4x2.2 hole 1: 1(-29.21,1.27) 2(-29.21,-1.27) 3(-26.67,1.27) 4(-26.67,-1.27) 5(-24.13,1.27) 6(-24.13,-1.27) 7(-21.59,1.27) 8(-21.59,-1.27) 9(-19.05,1.27) 10(-19.05,-1.27) 11(-16.51,1.27) 12(-16.51,-1.27) 13(-13.97,1.27) 14(-13.97,-1.27) 15(-11.43,1.27) 16(-11.43,-1.27) 17(-8.89,1.27) 18(-8.89,-1.27) 19(-6.35,1.27) 20(-6.35,-1.27) 21(-3.81,1.27) 22(-3.81,-1.27) 23(-1.27,1.27) 24(-1.27,-1.27) 25(1.27,1.27) 26(1.27,-1.27) 27(3.81,1.27) 28(3.81,-1.27) 29(6.35,1.27) 30(6.35,-1.27) 31(8.89,1.27) 32(8.89,-1.27) 33(11.43,1.27) 34(11.43,-1.27) 35(13.97,1.27) 36(13.97,-1.27) 37(16.51,1.27) 38(16.51,-1.27) 39(19.05,1.27) 40(19.05,-1.27) 41(21.59,1.27) 42(21.59,-1.27) 43(24.13,1.27) 44(24.13,-1.27) 45(26.67,1.27) 46(26.67,-1.27) 47(29.21,1.27) 48(29.21,-1.27)
TopOverlay:
  circle w0.2: c-30.94,1.3 r0.2
  lines w0.2: -30.48,-2.54 30.6,-2.54 30.6,2.54 -30.48,2.54 -30.48,-2.54
3D body "PBD-2.stp": height 8.5, standoff -3.15, extent -25.4,-2.54 -22.86,2.54
3D body "PBD-2.stp": height 8.5, standoff -3.15, extent -30.48,-2.54 -27.94,2.54
3D body "PBD-2.stp": height 8.5, standoff -3.15, extent -27.94,-2.54 -25.4,2.54
3D body "PBD-2.stp": height 8.5, standoff -3.15, extent -17.78,-2.54 -15.24,2.54
3D body "PBD-2.stp": height 8.5, standoff -3.15, extent -22.86,-2.54 -20.32,2.54
3D body "PBD-2.stp": height 8.5, standoff -3.15, extent -20.32,-2.54 -17.78,2.54
3D body "PBD-2.stp": height 8.5, standoff -3.15, extent -10.16,-2.54 -7.62,2.54
3D body "PBD-2.stp": height 8.5, standoff -3.15, extent -15.24,-2.54 -12.7,2.54
3D body "PBD-2.stp": height 8.5, standoff -3.15, extent -12.7,-2.54 -10.16,2.54
3D body "PBD-2.stp": height 8.5, standoff -3.15, extent -2.54,-2.54 0,2.54
3D body "PBD-2.stp": height 8.5, standoff -3.15, extent -7.62,-2.54 -5.08,2.54
3D body "PBD-2.stp": height 8.5, standoff -3.15, extent -5.08,-2.54 -2.54,2.54
3D body "PBD-2.stp": height 8.5, standoff -3.15, extent 5.08,-2.54 7.62,2.54
3D body "PBD-2.stp": height 8.5, standoff -3.15, extent 0,-2.54 2.54,2.54
3D body "PBD-2.stp": height 8.5, standoff -3.15, extent 2.54,-2.54 5.08,2.54
3D body "PBD-2.stp": height 8.5, standoff -3.15, extent 12.7,-2.54 15.24,2.54
3D body "PBD-2.stp": height 8.5, standoff -3.15, extent 7.62,-2.54 10.16,2.54
3D body "PBD-2.stp": height 8.5, standoff -3.15, extent 10.16,-2.54 12.7,2.54
3D body "PBD-2.stp": height 8.5, standoff -3.15, extent 15.24,-2.54 17.78,2.54
3D body "PBD-2.stp": height 8.5, standoff -3.15, extent 17.78,-2.54 20.32,2.54
3D body "PBD-2.stp": height 8.5, standoff -3.15, extent 20.32,-2.54 22.86,2.54
3D body "PBD-2.stp": height 8.5, standoff -3.15, extent 22.86,-2.54 25.4,2.54
3D body "PBD-2.stp": height 8.5, standoff -3.15, extent 25.4,-2.54 27.94,2.54
3D body "PBD-2.stp": height 8.5, standoff -3.15, extent 27.94,-2.54 30.48,2.54

## HDR_F_2X25 [mm] "Connector; Header;"
height 8
pads (50):
  round 1.4 / inner round 1.4 / far side oval 1.4x2.2 hole 1: 1(-30.48,1.27) 2(-30.48,-1.27) 3(-27.94,1.27) 4(-27.94,-1.27) 5(-25.4,1.27) 6(-25.4,-1.27) 7(-22.86,1.27) 8(-22.86,-1.27) 9(-20.32,1.27) 10(-20.32,-1.27) 11(-17.78,1.27) 12(-17.78,-1.27) 13(-15.24,1.27) 14(-15.24,-1.27) 15(-12.7,1.27) 16(-12.7,-1.27) 17(-10.16,1.27) 18(-10.16,-1.27) 19(-7.62,1.27) 20(-7.62,-1.27) 21(-5.08,1.27) 22(-5.08,-1.27) 23(-2.54,1.27) 24(-2.54,-1.27) 25(0,1.27) 26(0,-1.27) 27(2.54,1.27) 28(2.54,-1.27) 29(5.08,1.27) 30(5.08,-1.27) 31(7.62,1.27) 32(7.62,-1.27) 33(10.16,1.27) 34(10.16,-1.27) 35(12.7,1.27) 36(12.7,-1.27) 37(15.24,1.27) 38(15.24,-1.27) 39(17.78,1.27) 40(17.78,-1.27) 41(20.32,1.27) 42(20.32,-1.27) 43(22.86,1.27) 44(22.86,-1.27) 45(25.4,1.27) 46(25.4,-1.27) 47(27.94,1.27) 48(27.94,-1.27) 49(30.48,1.27) 50(30.48,-1.27)
TopOverlay:
  circle w0.2: c-32.21,1.3 r0.2
  lines w0.2: -31.75,-2.54 31.75,-2.54 31.75,2.54 -31.75,2.54 -31.75,-2.54
3D body "PBD-2.stp": height 8.5, standoff -3.15, extent -26.67,-2.54 -24.13,2.54
3D body "PBD-2.stp": height 8.5, standoff -3.15, extent -31.75,-2.54 -29.21,2.54
3D body "PBD-2.stp": height 8.5, standoff -3.15, extent -29.21,-2.54 -26.67,2.54
3D body "PBD-2.stp": height 8.5, standoff -3.15, extent -19.05,-2.54 -16.51,2.54
3D body "PBD-2.stp": height 8.5, standoff -3.15, extent -24.13,-2.54 -21.59,2.54
3D body "PBD-2.stp": height 8.5, standoff -3.15, extent -21.59,-2.54 -19.05,2.54
3D body "PBD-2.stp": height 8.5, standoff -3.15, extent -11.43,-2.54 -8.89,2.54
3D body "PBD-2.stp": height 8.5, standoff -3.15, extent -16.51,-2.54 -13.97,2.54
3D body "PBD-2.stp": height 8.5, standoff -3.15, extent -13.97,-2.54 -11.43,2.54
3D body "PBD-2.stp": height 8.5, standoff -3.15, extent -3.81,-2.54 -1.27,2.54
3D body "PBD-2.stp": height 8.5, standoff -3.15, extent -8.89,-2.54 -6.35,2.54
3D body "PBD-2.stp": height 8.5, standoff -3.15, extent -6.35,-2.54 -3.81,2.54
3D body "PBD-2.stp": height 8.5, standoff -3.15, extent 3.81,-2.54 6.35,2.54
3D body "PBD-2.stp": height 8.5, standoff -3.15, extent -1.27,-2.54 1.27,2.54
3D body "PBD-2.stp": height 8.5, standoff -3.15, extent 1.27,-2.54 3.81,2.54
3D body "PBD-2.stp": height 8.5, standoff -3.15, extent 11.43,-2.54 13.97,2.54
3D body "PBD-2.stp": height 8.5, standoff -3.15, extent 6.35,-2.54 8.89,2.54
3D body "PBD-2.stp": height 8.5, standoff -3.15, extent 8.89,-2.54 11.43,2.54
3D body "PBD-2.stp": height 8.5, standoff -3.15, extent 13.97,-2.54 16.51,2.54
3D body "PBD-2.stp": height 8.5, standoff -3.15, extent 16.51,-2.54 19.05,2.54
3D body "PBD-2.stp": height 8.5, standoff -3.15, extent 19.05,-2.54 21.59,2.54
3D body "PBD-2.stp": height 8.5, standoff -3.15, extent 21.59,-2.54 24.13,2.54
3D body "PBD-2.stp": height 8.5, standoff -3.15, extent 24.13,-2.54 26.67,2.54
3D body "PBD-2.stp": height 8.5, standoff -3.15, extent 26.67,-2.54 29.21,2.54
3D body "PBD-2.stp": height 8.5, standoff -3.15, extent 29.21,-2.54 31.75,2.54